# EAGLE library part LTC3119 (library CougsInSpace)
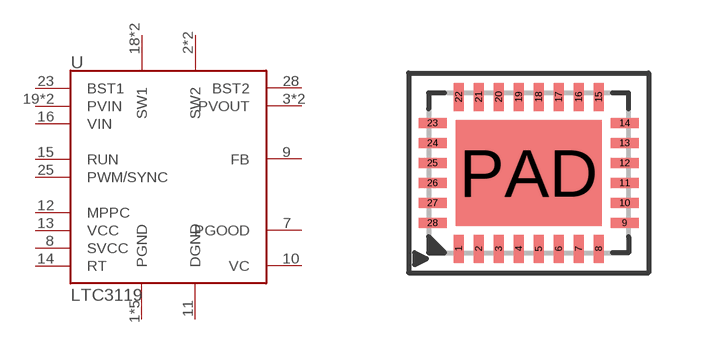
[diagram p23: symbol with the pads of QFN28-4X5; footprint QFN28-4X5]

Designator prefix U

## LTC3119  [QFN28-4X5]
1  PGND  pwr
2  SW2  pas
3  PVOUT  out
4  PVOUT  out
5  SW2  pas
6  PGND  pwr
7  PGOOD  out
8  SVCC  pwr
9  FB  in
10  VC  out
11  DGND  pwr
12  MPPC  in
13  VCC  pwr
14  RT  in
15  RUN  in
16  VIN  in
17  PGND  pwr
18  SW1  pas
19  PVIN  in
20  PVIN  in
21  SW1  pas
22  PGND  pwr
23  BST1  pas
25  PWM/SYNC  in
28  BST2  pas
PAD  PGND  pwr

## Footprint QFN28-4X5 (pad centres in mm)
smd 0.25 x 0.7: 1 -1.75,-1.9; 2 -1.25,-1.9; 3 -0.75,-1.9; 4 -0.25,-1.9; 5 0.25,-1.9; 6 0.75,-1.9; 7 1.25,-1.9; 8 1.75,-1.9; 15 1.75,1.9; 16 1.25,1.9; 17 0.75,1.9; 18 0.25,1.9; 19 -0.25,1.9; 20 -0.75,1.9; 21 -1.25,1.9; 22 -1.75,1.9
smd 0.7 x 0.25: 9 2.4,-1.25; 10 2.4,-0.75; 11 2.4,-0.25; 12 2.4,0.25; 13 2.4,0.75; 14 2.4,1.25; 23 -2.4,1.25; 24 -2.4,0.75; 25 -2.4,0.25; 26 -2.4,-0.25; 27 -2.4,-0.75; 28 -2.4,-1.25
smd 3.65 x 2.65: PAD 0,0